# EAGLE library part LT7688 (library oTFTeatherWing)
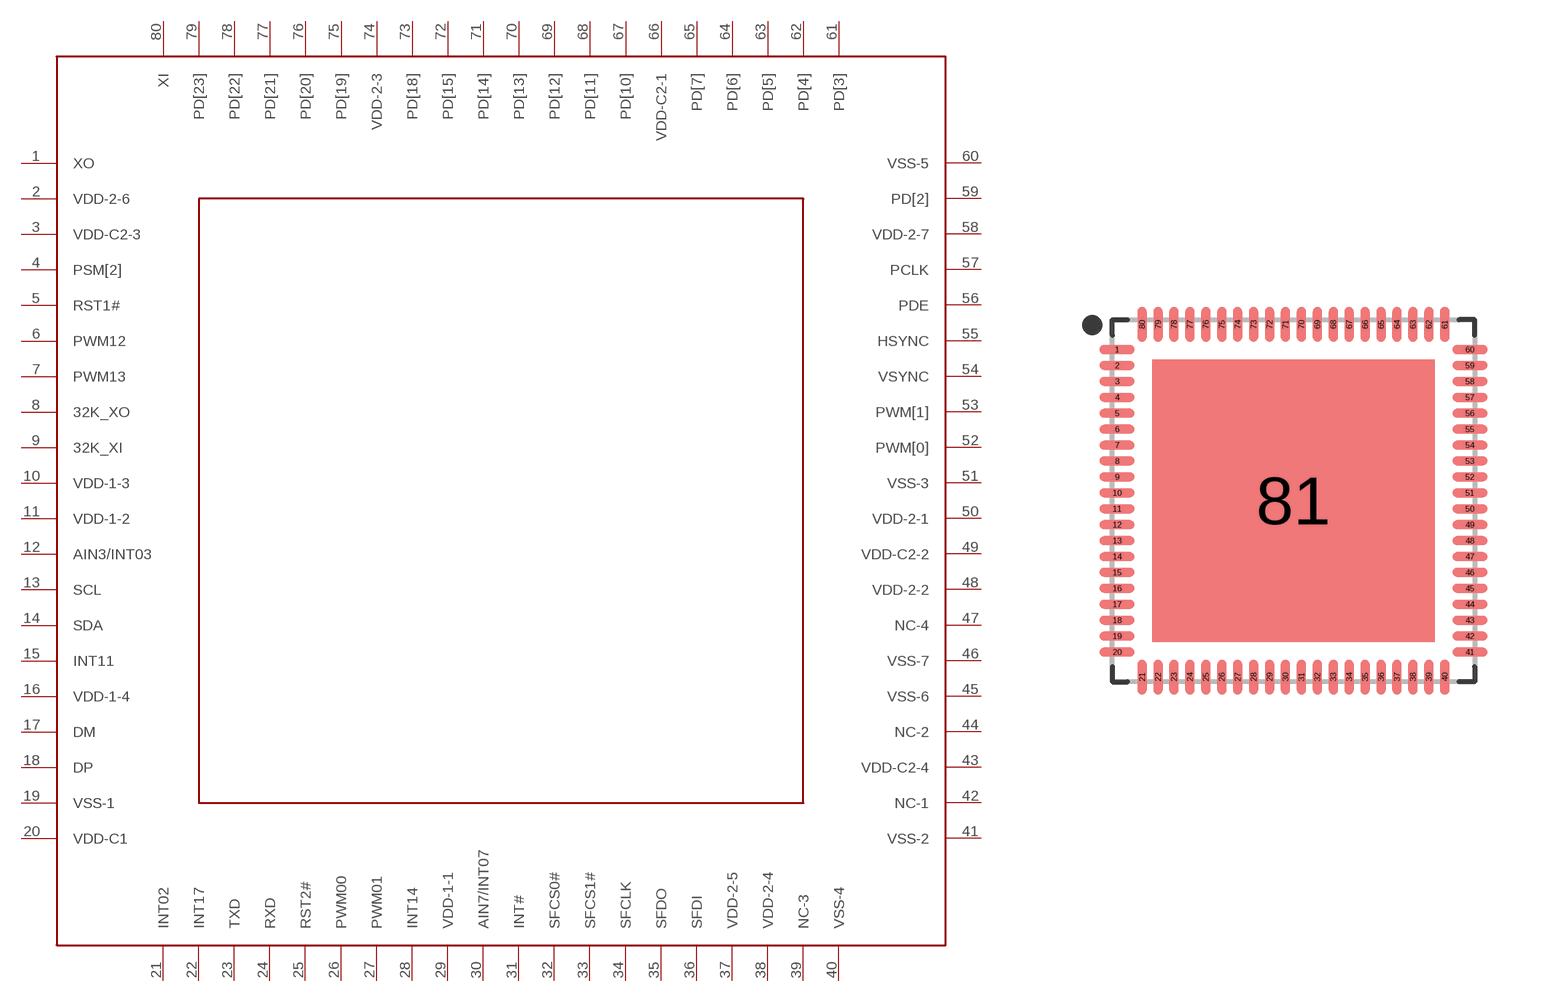
[diagram p0: symbol with the pads of QFN40P900X900X70-81T710N; footprint QFN40P900X900X70-81T710N]

Designator prefix -

## LT7688  [QFN40P900X900X70-81T710N]
1  XO
2  VDD-2-6
3  VDD-C2-3
4  PSM[2]
5  RST1#
6  PWM12
7  PWM13
8  32K_XO
9  32K_XI
10  VDD-1-3
11  VDD-1-2
12  AIN3/INT03
13  SCL
14  SDA
15  INT11
16  VDD-1-4
17  DM
18  DP
19  VSS-1
20  VDD-C1
21  INT02
22  INT17
23  TXD
24  RXD
25  RST2#
26  PWM00
27  PWM01
28  INT14
29  VDD-1-1
30  AIN7/INT07
31  INT#
32  SFCS0#
33  SFCS1#
34  SFCLK
35  SFDO
36  SFDI
37  VDD-2-5
38  VDD-2-4
39  NC-3
40  VSS-4
41  VSS-2
42  NC-1
43  VDD-C2-4
44  NC-2
45  VSS-6
46  VSS-7
47  NC-4
48  VDD-2-2
49  VDD-C2-2
50  VDD-2-1
51  VSS-3
52  PWM[0]
53  PWM[1]
54  VSYNC
55  HSYNC
56  PDE
57  PCLK
58  VDD-2-7
59  PD[2]
60  VSS-5
61  PD[3]
62  PD[4]
63  PD[5]
64  PD[6]
65  PD[7]
66  VDD-C2-1
67  PD[10]
68  PD[11]
69  PD[12]
70  PD[13]
71  PD[14]
72  PD[15]
73  PD[18]
74  VDD-2-3
75  PD[19]
76  PD[20]
77  PD[21]
78  PD[22]
79  PD[23]
80  XI

## Footprint QFN40P900X900X70-81T710N (pad centres in mm)
80-QFN, 0.40 mm pitch, 9.00 X 9.00 X 0.70 mm body, 7.10 X 7.10 mm thermal pad 80-pin QFN package with 0.40 mm pitch with body size 9.00 X 9.00 X 0.70 mm and thermal pad size 7.10 X 7.10 mm
smd 0.873 x 0.22: 1 -4.428,3.8; 2 -4.428,3.4; 3 -4.428,3; 4 -4.428,2.6; 5 -4.428,2.2; 6 -4.428,1.8; 7 -4.428,1.4; 8 -4.428,1; 9 -4.428,0.6; 10 -4.428,0.2; 11 -4.428,-0.2; 12 -4.428,-0.6; 13 -4.428,-1; 14 -4.428,-1.4; 15 -4.428,-1.8; 16 -4.428,-2.2; 17 -4.428,-2.6; 18 -4.428,-3; 19 -4.428,-3.4; 20 -4.428,-3.8; 41 4.428,-3.8; 42 4.428,-3.4; 43 4.428,-3; 44 4.428,-2.6; 45 4.428,-2.2; 46 4.428,-1.8; 47 4.428,-1.4; 48 4.428,-1; 49 4.428,-0.6; 50 4.428,-0.2; 51 4.428,0.2; 52 4.428,0.6; 53 4.428,1; 54 4.428,1.4; 55 4.428,1.8; 56 4.428,2.2; 57 4.428,2.6; 58 4.428,3; 59 4.428,3.4; 60 4.428,3.8
smd 0.22 x 0.873: 21 -3.8,-4.428; 22 -3.4,-4.428; 23 -3,-4.428; 24 -2.6,-4.428; 25 -2.2,-4.428; 26 -1.8,-4.428; 27 -1.4,-4.428; 28 -1,-4.428; 29 -0.6,-4.428; 30 -0.2,-4.428; 31 0.2,-4.428; 32 0.6,-4.428; 33 1,-4.428; 34 1.4,-4.428; 35 1.8,-4.428; 36 2.2,-4.428; 37 2.6,-4.428; 38 3,-4.428; 39 3.4,-4.428; 40 3.8,-4.428; 61 3.8,4.428; 62 3.4,4.428; 63 3,4.428; 64 2.6,4.428; 65 2.2,4.428; 66 1.8,4.428; 67 1.4,4.428; 68 1,4.428; 69 0.6,4.428; 70 0.2,4.428; 71 -0.2,4.428; 72 -0.6,4.428; 73 -1,4.428; 74 -1.4,4.428; 75 -1.8,4.428; 76 -2.2,4.428; 77 -2.6,4.428; 78 -3,4.428; 79 -3.4,4.428; 80 -3.8,4.428
smd 7.1 x 7.1: 81 0,0